# EAGLE library part PC8574 (library kxnStandard_IC_Function)
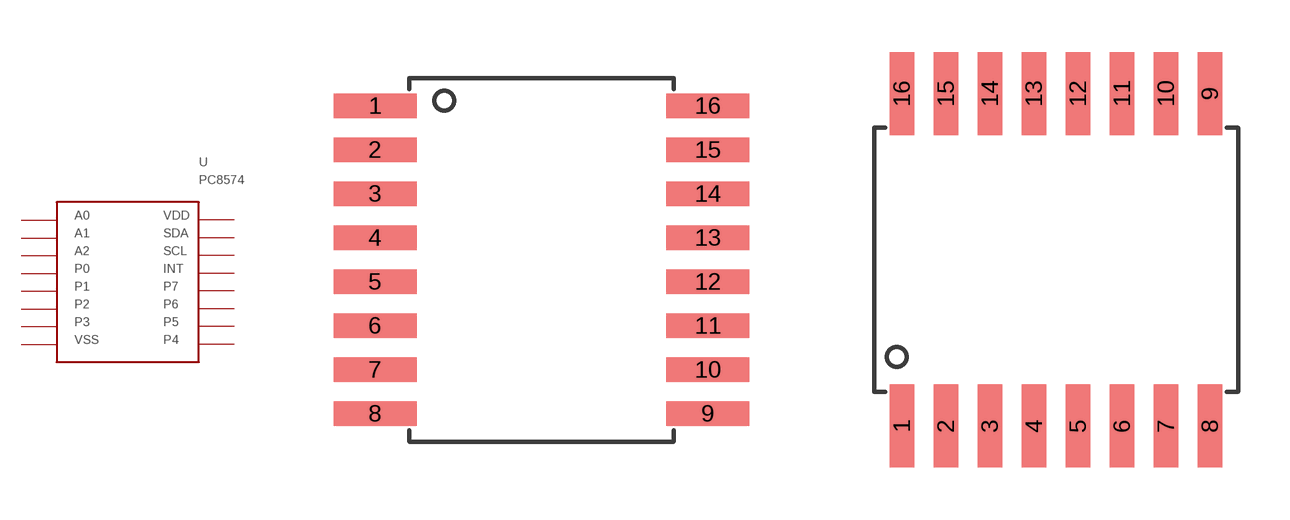
[diagram p8: symbol with the pads of PC8574; footprints PC8574, SOIC_16_KXN_1]

Designator prefix -

## PC8574SOP16 (CC_SHOP: CongCo)  [PC8574]
1  1
2  2
3  3
4  4
5  5
6  6
7  7
8  8
9  9
10  10
11  11
12  12
13  13
14  14
15  15
16  16

## PC8574 (CC_SHOP: CongCo)  [SOIC_16_KXN_1]
Pads as for PC8574

## Footprint PC8574 (pad centres in mm)
smd 2.4 x 0.7: 1 -4.8,4.445; 2 -4.8,3.175; 3 -4.8,1.905; 4 -4.8,0.635; 5 -4.8,-0.635; 6 -4.8,-1.905; 7 -4.8,-3.175; 8 -4.8,-4.445; 9 4.8,-4.445; 10 4.8,-3.175; 11 4.8,-1.905; 12 4.8,-0.635; 13 4.8,0.635; 14 4.8,1.905; 15 4.8,3.175; 16 4.8,4.445

## Footprint SOIC_16_KXN_1 (pad centres in mm)
smd 0.7 x 2.4: 1 -4.445,-4.8; 2 -3.175,-4.8; 3 -1.905,-4.8; 4 -0.635,-4.8; 5 0.635,-4.8; 6 1.905,-4.8; 7 3.175,-4.8; 8 4.445,-4.8; 9 4.445,4.8; 10 3.175,4.8; 11 1.905,4.8; 12 0.635,4.8; 13 -0.635,4.8; 14 -1.905,4.8; 15 -3.175,4.8; 16 -4.445,4.8